# Altium schematic symbol library Oscillator 8Mhz YSX530GA.Schlib: 1 symbol
Pins are listed as number, name and electrical type; pins without a type are passive.

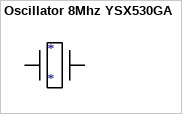
[diagram p0: symbol Oscillator 8Mhz YSX530GA]

## Oscillator 8Mhz YSX530GA
designator *
LCSC Part #: C115962; JLCPCB Part Type: Basic
footprint SMD-5032_2P
pins: 1, 2